# Altium footprint library Components - 24.04.26 - 12.31.PcbLib: 1 footprints
Each footprint in its own frame and in the unit in brackets; x right, y up, seen from the top. Pads: shape width x height; smd on the part's side, far side on the other; paste and mask are expansions set on the pad; w line width, h text height; cw(c..) or ccw(c..) is an arc to the next point about the centre after c.
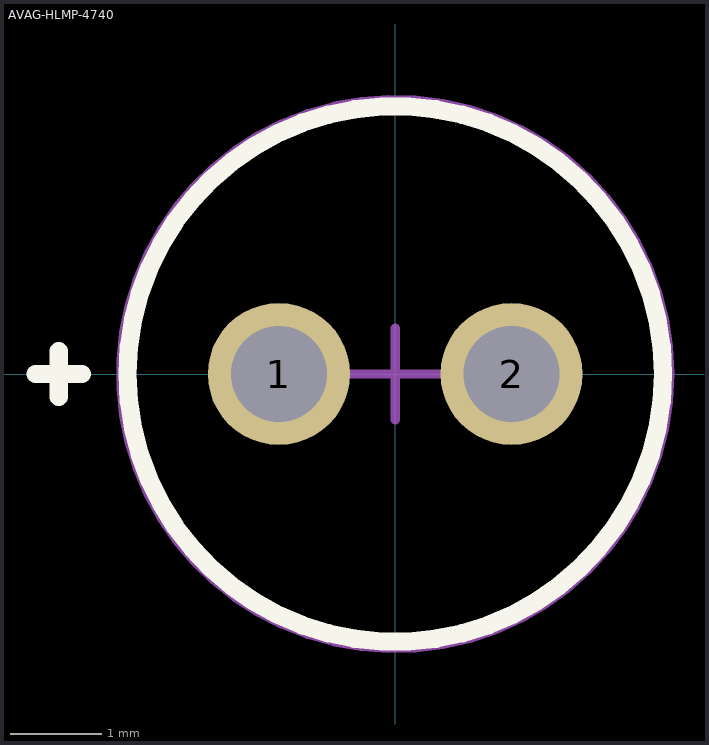
[diagram p0: the footprint, top view; thin cyan lines are the x and y axes]

## AVAG-HLMP-4740 [mm] "THD, 2-Leads, Dia 5.845mm, Pitch 2.54mm"
pads (2):
  round 1.55 hole 1.05: 1(-1.27,0) 2(1.27,0)
Top Overlay:
  circle w0.2: c0,0 r2.923
  lines w0.2: -3.922,0 -3.423,0 ; -3.672,-0.25 -3.672,0.25
Mechanical 13:
  circle w0.1: c0,0 r2.923
Mechanical 15:
  circle w0.05: c0,0 r3.023
  lines w0.1: -0.5,0 0.5,0 ; 0,-0.5 0,0.5